# Altium schematic symbol library LEDs.SchLib: 1 symbol
Pins are listed as number, name and electrical type; pins without a type are passive.

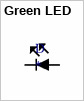
[diagram p0: symbol Green LED]

## Green LED
designator D
LED, green, 0603, 2mA, 2.65V, SMD
footprint LED 0603 (1.6mmX0.8mm SMD, 2mA)
pins: 1, 2